# EAGLE library part TEN8 (library traco_ten)
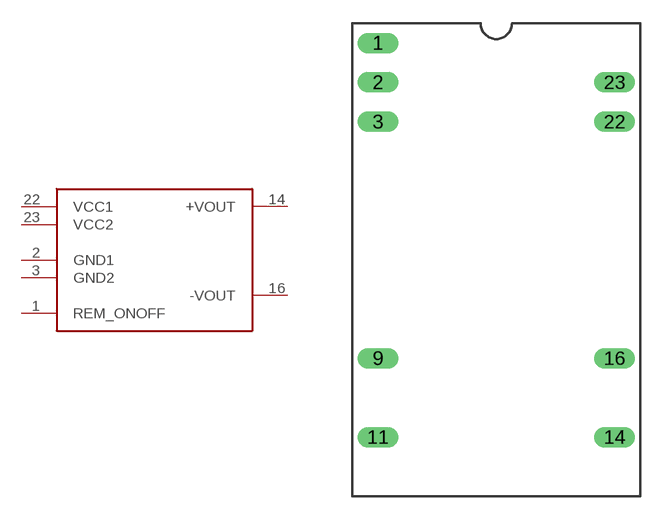
[diagram p2: symbol with the pads of TEN8; footprint TEN8]

Designator prefix -

## TEN8  [TEN8]
1  REM_ONOFF
2  GND1  sup
3  GND2  sup
14  +VOUT  out
16  -VOUT  out
22  VCC1  sup
23  VCC2  sup

## Footprint TEN8 (pad centres in mm)
drill 0.813 long: 1 -7.62,12.7; 2 -7.62,10.16; 3 -7.62,7.62; 9 -7.62,-7.62; 11 -7.62,-12.7; 14 7.62,-12.7; 16 7.62,-7.62; 22 7.62,7.62; 23 7.62,10.16